# Altium schematic symbol library FV4A.SchLib: 1 symbol
Pins are listed as number, name and electrical type; pins without a type are passive.

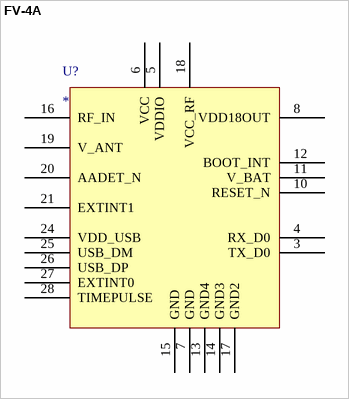
[diagram p0: symbol FV-4A]

## FV-4A
designator U?
FV-4A
pins: 3 TX_D0, 4 RX_D0, 5 VDDIO, 6 VCC, 7 GND, 8 VDD18OUT, 10 RESET_N, 11 V_BAT, 12 BOOT_INT, 13 GND4, 14 GND3, 15 GND, 16 RF_IN, 17 GND2, 18 VCC_RF, 19 V_ANT, 20 AADET_N, 21 EXTINT1, 24 VDD_USB, 25 USB_DM, 26 USB_DP, 27 EXTINT0, 28 TIMEPULSE